# Altium footprint library pbcBoard.PcbLib: 13 footprints
Each footprint in its own frame and in the unit in brackets; x right, y up, seen from the top. Pads: shape width x height; smd on the part's side, far side on the other; paste and mask are expansions set on the pad; w line width, h text height; cw(c..) or ccw(c..) is an arc to the next point about the centre after c.
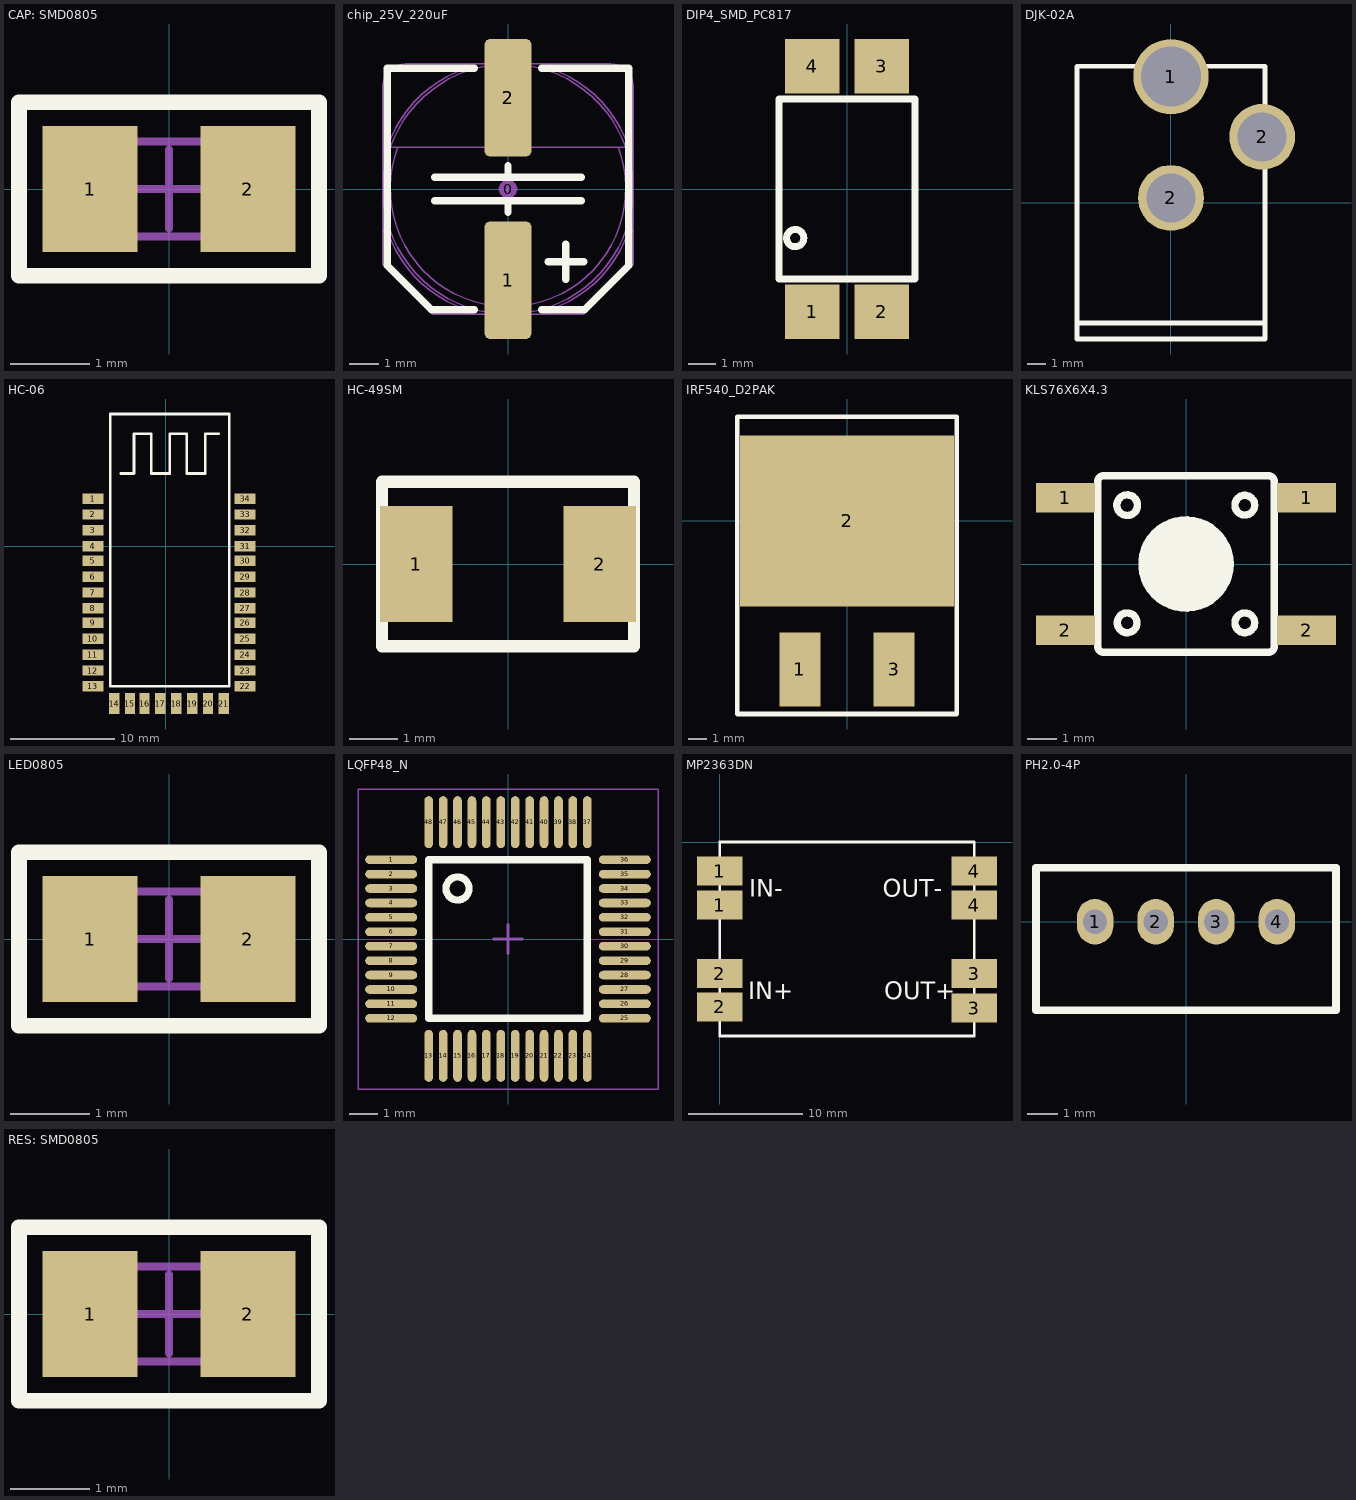
[diagram p0: the footprints below, top view; thin cyan lines are the x and y axes]

## CAP: SMD0805 [mm]
height 1
pads (2):
  rect 1.2x1.6 smd: 1(-1,0) 2(1,0)
Top Overlay:
  lines w0.2: -1.9,-1.1 1.9,-1.1 1.9,1.1 -1.9,1.1 -1.9,-1.1
Mechanical 7:
  lines w0.05: -1.9,-1.1 1.9,-1.1 1.9,1.1 -1.9,1.1 -1.9,-1.1
Mechanical 13:
  lines w0.1: -1,-0.6 -1,0.6 1,0.6 1,-0.6 -1,-0.6
Mechanical 15:
  lines w0.1: -0.5,0 0.5,0 ; 0,-0.5 0,0.5 ; -1.9,-1.1 -1.9,1.1 1.9,1.1 1.9,-1.1 -1.9,-1.1
3D body "User Library-CAPC2013X10.step": height 1.01, standoff 0.01, extent -1,-0.625 1,0.625

## chip_25V_220uF [mm] "Capacitor, polarized, aluminum can; 8.0x6.2mm DxH"
height 6.2
pads (3):
  round 0.635 on Mech15: 0(0,0)
  rrect25% 1.6x4 smd: 1(0,-3.1) 2(0,3.1)
Top Overlay:
  lines w0.24: -2.5,-0.4 2.5,-0.4 ; -2.5,0.4 2.5,0.4 ; 0,-0.8 0,-0.4 ; 0,0.4 0,0.8
  lines w0.25: -1.15,-4.1 -2.6,-4.1 -4.1,-2.6 -4.1,4.1 -1.15,4.1 ; 1.15,-4.1 2.6,-4.1 4.1,-2.6 4.1,4.1 1.15,4.1
  lines w0.254: 1.368,-2.476 2.568,-2.476 ; 1.968,-3.076 1.968,-1.876
Mechanical 13:
  lines w0.05: -4.25,-1.436 -4.106,-1.436 ccw(c0,0) -1.436,-4.106 -1.436,-4.25 ; -4.25,1.436 -4.106,1.436 cw(c0,0) -1.436,4.106 -1.436,4.25 ; -4.005,1.417 cw(c0,0) 4.005,1.417 ; -3.741,1.417 ccw(c0,0) 3.741,1.417 ; -0.325,-4.25 -0.325,-4.75 0.325,-4.75 0.325,-4.25 ; -0.325,4.25 -0.325,4.75 0.325,4.75 0.325,4.25 ; 1.436,-4.25 1.436,-4.106 ccw(c0,0) 4.106,-1.436 4.25,-1.436 ; 1.436,4.25 1.436,4.106 cw(c0,0) 4.106,1.436 4.25,1.436 ; -4.25,-2.55 -2.55,-4.25 2.55,-4.25 4.25,-2.55 4.25,3.5 ccw(c3.5,3.5) 3.5,4.25 -3.5,4.25 ccw(c-3.5,3.5) -4.25,3.5 -4.25,-2.55 ; -4.007,1.417 ccw(c0,0) 4.007,1.417 -4.007,1.417
3D body "CAP Alum Elec Size E.STEP": height 6.5, standoff 0, extent -4.25,-4.75 4.25,4.75

## DIP4_SMD_PC817 [mm]
height 15
pads (4):
  rect 2x2 smd: 1(-1.27,-4.5) 2(1.27,-4.5) 3(1.27,4.5) 4(-1.27,4.5)
Top Overlay:
  circle w0.254: c-1.9,-1.8 r0.316
  lines w0.254: -2.5,-3.3 2.5,-3.3 2.5,3.3 -2.5,3.3 -2.5,-3.3
3D body "PC817_DIP4_opto_iso.step": height 3.9, standoff 0, extent -2.416,-5.015 2.416,5.015

## DJK-02A [mm]
pads (3):
  round 4 hole 3.2: 1(0,6.7)
  round 3.5 hole 2.6: 2(0,0.25) 2(4.85,3.5)
Top Overlay:
  lines w0.25: -5,-6.4 4.975,-6.4 5,-6.425 ; 4.95,-7.25 -5,-7.25 -5,7.25 4.95,7.25 ; 5,-7.25 5,7.25
3D body "User Library-DJK-02A-1.step": height 11.5, standoff -3, extent -4.5,-7.25 4.95,7.25

## HC-06 [mm]
height 10
pads (34):
  rect 2x1 smd: 1(-6.985,4.572) 2(-6.985,3.048) 3(-6.985,1.524) 4(-6.985,0) 5(-6.985,-1.397) 6(-6.985,-2.921) 7(-6.985,-4.445) 8(-6.985,-5.969) 9(-6.985,-7.366) 10(-6.985,-8.89) 11(-6.985,-10.414) 12(-6.985,-11.938) 13(-6.985,-13.462) 22(7.62,-13.462) 23(7.62,-11.938) 24(7.62,-10.414) 25(7.62,-8.89) 26(7.62,-7.366) 27(7.62,-5.969) 28(7.62,-4.445) 29(7.62,-2.921) 30(7.62,-1.397) 31(7.62,0) 32(7.62,1.524) 33(7.62,3.048) 34(7.62,4.572)
  rect 1x2 smd: 14(-4.953,-15.113) 15(-3.429,-15.113) 16(-2.032,-15.113) 17(-0.508,-15.113) 18(1.016,-15.113) 19(2.54,-15.113) 20(4.064,-15.113) 21(5.588,-15.113)
Top Overlay:
  lines w0.254: -4.318,6.985 -3.048,6.985 -3.048,10.795 -1.397,10.795 -1.397,6.985 0.381,6.985 0.381,10.795 2.032,10.795 2.032,6.985 3.81,6.985 3.81,10.795 5.08,10.795 ; -5.334,-13.462 -5.334,12.7 6.096,12.7 6.096,-13.462 -5.334,-13.462
3D body "Bluetooth HC-06_.step": height 2.35, standoff 0, extent -6.741,-15.188 7.279,12.822

## HC-49SM [mm]
pads (2):
  rect 1.5x2.4 smd: 1(-1.9,0) 2(1.9,0)
Top Overlay:
  lines w0.25: -2.6,-1.7 -2.6,1.7 2.6,1.7 2.6,-1.7 -2.6,-1.7
3D body "User Library-ABM3.STEP": height 1.3, standoff 0, extent -2.6,-1.7 2.6,1.7

## IRF540_D2PAK [mm]
pads (3):
  rect 2.2x4 smd: 1(-2.54,-8) 3(2.54,-8)
  rect 11.5x9.2 smd: 2(0,0)
Top Overlay:
  lines w0.25: -5.9,-10.4 -5.9,5.6 5.9,5.6 5.9,-10.4 -5.9,-10.4
3D body "User Library-D2PAK.step": height 4.83, standoff 0, extent -5.333,-10.288 5.337,5.592

## KLS76X6X4.3 [mm]
pads (4):
  rect 2x1 smd: 1(-4.1,2.25) 1(4.1,2.25) 2(-4.1,-2.25) 2(4.1,-2.25)
Top Overlay:
  circle w0.25: c0,0 r1.5
  circle w0.25: c-2,2 r0.35
  circle w0.25: c2,2 r0.335
  circle w0.25: c2,-2 r0.335
  circle w0.25: c-2,-2 r0.335
  region: 0,1.5 0.148,1.5 0.437,1.442 0.71,1.329 0.956,1.165 1.165,0.956 1.329,0.71 1.442,0.438 1.5,0.148 1.5,0 1.5,-0.148 1.442,-0.438 1.329,-0.711 1.165,-0.956 0.956,-1.165 0.711,-1.329 0.438,-1.442 0.148,-1.5 0,-1.5 -0.1,-1.5 -0.238,-1.5 -0.508,-1.446 -0.763,-1.341 -0.992,-1.187 -1.187,-0.992 -1.341,-0.763 -1.446,-0.508 -1.5,-0.238 -1.5,-0.1 -1.5,0 -1.5,0.148 -1.442,0.438 -1.329,0.71 -1.165,0.956 -0.956,1.165 -0.711,1.329 -0.438,1.442 -0.148,1.5
  lines w0.25: -3,-2.8 ccw(c-2.8,-2.8) -2.8,-3 2.8,-3 ccw(c2.8,-2.8) 3,-2.8 3,2.8 ccw(c2.8,2.8) 2.8,3 -2.8,3 ccw(c-2.8,2.8) -3,2.8 -3,-2.8
3D body "User Library-PTS645SL43SMTR92-LFS.STEP": height 4.3, standoff 0, extent -4.5,-3 4.5,3

## LED0805 [mm]
pads (2):
  rect 1.2x1.6 smd: 1(-1,0) 2(1,0)
Top Overlay:
  lines w0.2: -1.9,-1.1 -1.9,1.1 1.9,1.1 1.9,-1.1 -1.9,-1.1
Mechanical 7:
  lines w0.05: -1.9,-1.1 -1.9,1.1 1.9,1.1 1.9,-1.1 -1.9,-1.1
Mechanical 13:
  lines w0.1: -1,-0.6 1,-0.6 1,0.6 -1,0.6 -1,-0.6
Mechanical 15:
  lines w0.1: -0.5,0 0.5,0 ; 0,-0.5 0,0.5 ; -1.9,-1.1 1.9,-1.1 1.9,1.1 -1.9,1.1 -1.9,-1.1
3D body "User Library-CHIPLED-0805.SLDPRT": height 0.9, standoff -0.01, extent -1.05,-0.675 1.05,0.675

## LQFP48_N [mm] "QFP, 48-Leads, Body 7x7mm, Pitch 0.5mm, IPC Medium Density"
height 1.6
pads (48):
  oval 1.8x0.3 smd: 1(-4.05,2.75) 2(-4.05,2.25) 3(-4.05,1.75) 4(-4.05,1.25) 5(-4.05,0.75) 6(-4.05,0.25) 7(-4.05,-0.25) 8(-4.05,-0.75) 9(-4.05,-1.25) 10(-4.05,-1.75) 11(-4.05,-2.25) 12(-4.05,-2.75) 25(4.05,-2.75) 26(4.05,-2.25) 27(4.05,-1.75) 28(4.05,-1.25) 29(4.05,-0.75) 30(4.05,-0.25) 31(4.05,0.25) 32(4.05,0.75) 33(4.05,1.25) 34(4.05,1.75) 35(4.05,2.25) 36(4.05,2.75)
  oval 0.3x1.8 smd: 13(-2.75,-4.05) 14(-2.25,-4.05) 15(-1.75,-4.05) 16(-1.25,-4.05) 17(-0.75,-4.05) 18(-0.25,-4.05) 19(0.25,-4.05) 20(0.75,-4.05) 21(1.25,-4.05) 22(1.75,-4.05) 23(2.25,-4.05) 24(2.75,-4.05) 37(2.75,4.05) 38(2.25,4.05) 39(1.75,4.05) 40(1.25,4.05) 41(0.75,4.05) 42(0.25,4.05) 43(-0.25,4.05) 44(-0.75,4.05) 45(-1.25,4.05) 46(-1.75,4.05) 47(-2.25,4.05) 48(-2.75,4.05)
Top Overlay:
  circle w0.25: c-1.75,1.75 r0.4
  lines w0.25: -2.75,-2.75 -2.75,2.75 2.75,2.75 2.75,-2.75 -2.75,-2.75
Mechanical 15:
  lines w0.05: -5.2,-5.2 -5.2,5.2 5.2,5.2 5.2,-5.2 -5.2,-5.2
  lines w0.1: -0.5,0 0.5,0 ; 0,-0.5 0,0.5
3D body "User Library-LQFP50P700X700x160-48N.SLDPRT": height 1.6, standoff 0.01, extent -4.49,-4.49 4.49,4.49

## MP2363DN [mm]
pads (8):
  rect 4x2.54 smd: 1(0,-5.54) 1(0,-2.54) 2(0,-14.46) 2(0,-11.54) 3(22.3,-14.56) 3(22.3,-11.54) 4(22.3,-5.54) 4(22.3,-2.54)
Top Overlay:
  lines w0.25: 0,-17 0,0 22.3,0 22.3,-17 0,-17
  text "OUT+" at 14.4,-13.8 h1.52
  text "OUT-" at 14.3,-4.8 h1.52
  text "IN+" at 2.5,-13.8 h1.52
  text "IN-" at 2.6,-4.8 h1.52
3D body: height 4.2, standoff 0, extent 0,-17 22.3,0

## PH2.0-4P [mm]
pads (4):
  oval 1.2x1.5 hole 0.8: 1(-3,0) 2(-1,0) 3(1,0) 4(3,0)
Top Overlay:
  lines w0.254: -4.95,-2.921 4.95,-2.921 4.95,1.778 -4.95,1.778 -4.95,-2.921
3D body "User Library-b4b-ph-k-s.SLDPRT": height 6, standoff -3, extent -4.95,-2.85 4.95,1.65

## RES: SMD0805 [mm]
height 0.6
pads (2):
  rect 1.2x1.6 smd: 1(-1,0) 2(1,0)
Top Overlay:
  lines w0.2: -1.9,-1.1 -1.9,1.1 1.9,1.1 1.9,-1.1 -1.9,-1.1
Mechanical 7:
  lines w0.05: -1.9,-1.1 -1.9,1.1 1.9,1.1 1.9,-1.1 -1.9,-1.1
Mechanical 13:
  lines w0.1: -1,-0.6 1,-0.6 1,0.6 -1,0.6 -1,-0.6
Mechanical 15:
  lines w0.1: -0.5,0 0.5,0 ; 0,-0.5 0,0.5 ; -1.9,-1.1 1.9,-1.1 1.9,1.1 -1.9,1.1 -1.9,-1.1
3D body "RES-0805.step": height 0.7, standoff 0, extent -1,-0.6 1,0.6